# EAGLE library part MILLI-GRID-36 (library con-molex)
Milli-Grid Pin Header 2.00mm (.079") Pitch
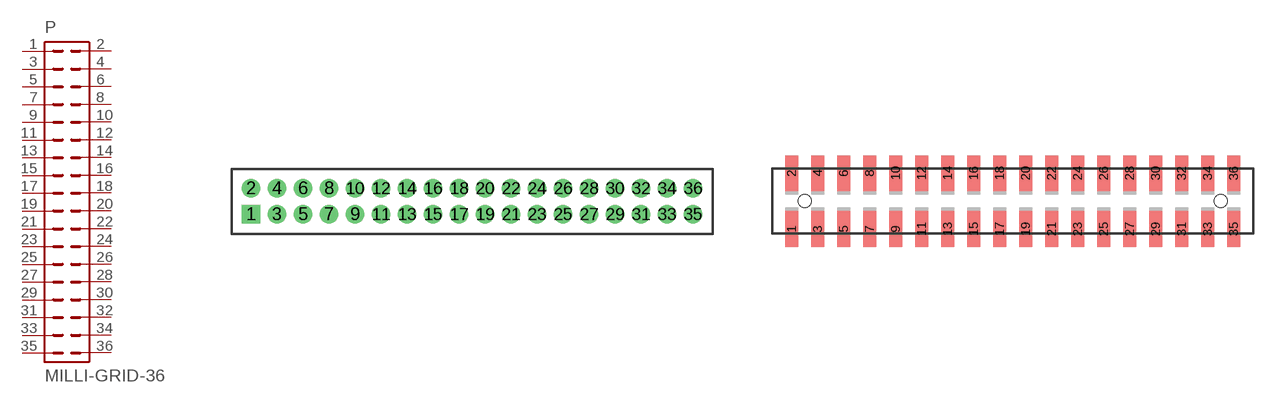
[diagram p66: symbol with the pads of 87758-36; footprints 87758-36, 87759-36]

Designator prefix P

## MILLI-GRID-36-87758  [87758-36]
1  1  pas
2  2  pas
3  3  pas
4  4  pas
5  5  pas
6  6  pas
7  7  pas
8  8  pas
9  9  pas
10  10  pas
11  11  pas
12  12  pas
13  13  pas
14  14  pas
15  15  pas
16  16  pas
17  17  pas
18  18  pas
19  19  pas
20  20  pas
21  21  pas
22  22  pas
23  23  pas
24  24  pas
25  25  pas
26  26  pas
27  27  pas
28  28  pas
29  29  pas
30  30  pas
31  31  pas
32  32  pas
33  33  pas
34  34  pas
35  35  pas
36  36  pas

## MILLI-GRID-36-87759  [87759-36]
Pads as for 87758-36

## MILLI-GRID-36-87264  [87264-36]
Pads as for 87758-36

## MILLI-GRID-36-87368  [87368-36]
Pads as for 87758-36

## Footprint 87758-36 (pad centres in mm)
PCB Pin Headers 2.00mm (.079") Pitch Milli-Grid Header, Vertical
drill 0.914 square: 1 -17,-1
drill 0.914: 2 -17,1; 3 -15,-1; 4 -15,1; 5 -13,-1; 6 -13,1; 7 -11,-1; 8 -11,1; 9 -9,-1; 10 -9,1; 11 -7,-1; 12 -7,1; 13 -5,-1; 14 -5,1; 15 -3,-1; 16 -3,1; 17 -1,-1; 18 -1,1; 19 1,-1; 20 1,1; 21 3,-1; 22 3,1; 23 5,-1; 24 5,1; 25 7,-1; 26 7,1; 27 9,-1; 28 9,1; 29 11,-1; 30 11,1; 31 13,-1; 32 13,1; 33 15,-1; 34 15,1; 35 17,-1; 36 17,1

## Footprint 87759-36 (pad centres in mm)
PCB Pin Headers 2.00mm (.079") Pitch Milli-Grid Header, Vertical SMD
smd 1 x 2.75: 1 -17,-2.15; 2 -17,2.15; 3 -15,-2.15; 4 -15,2.15; 5 -13,-2.15; 6 -13,2.15; 7 -11,-2.15; 8 -11,2.15; 9 -9,-2.15; 10 -9,2.15; 11 -7,-2.15; 12 -7,2.15; 13 -5,-2.15; 14 -5,2.15; 15 -3,-2.15; 16 -3,2.15; 17 -1,-2.15; 18 -1,2.15; 19 1,-2.15; 20 1,2.15; 21 3,-2.15; 22 3,2.15; 23 5,-2.15; 24 5,2.15; 25 7,-2.15; 26 7,2.15; 27 9,-2.15; 28 9,2.15; 29 11,-2.15; 30 11,2.15; 31 13,-2.15; 32 13,2.15; 33 15,-2.15; 34 15,2.15; 35 17,-2.15; 36 17,2.15
hole 1 at -16,0
hole 1 at 16,0

## Footprint 87264-36 (pad centres in mm)
Board-To-Board Receptacal 2.00mm (.079") Pitch Milli-Grid Header, Side Entry Mates with 2mm(.079") Mill-Grid Header
drill 0.914 square: 1 -17,-2.25
drill 0.914: 2 -17,2.25; 3 -15,-2.25; 4 -15,2.25; 5 -13,-2.25; 6 -13,2.25; 7 -11,-2.25; 8 -11,2.25; 9 -9,-2.25; 10 -9,2.25; 11 -7,-2.25; 12 -7,2.25; 13 -5,-2.25; 14 -5,2.25; 15 -3,-2.25; 16 -3,2.25; 17 -1,-2.25; 18 -1,2.25; 19 1,-2.25; 20 1,2.25; 21 3,-2.25; 22 3,2.25; 23 5,-2.25; 24 5,2.25; 25 7,-2.25; 26 7,2.25; 27 9,-2.25; 28 9,2.25; 29 11,-2.25; 30 11,2.25; 31 13,-2.25; 32 13,2.25; 33 15,-2.25; 34 15,2.25; 35 17,-2.25; 36 17,2.25

## Footprint 87368-36 (pad centres in mm)
Board-To-Board Receptacal 2.00mm (.079") Pitch Milli-Grid Header, Side Entry SMD Mates with 2mm(.079") Mill-Grid Header
smd 1 x 2.8: 1 -17,-3.1; 2 -17,3.1; 3 -15,-3.1; 4 -15,3.1; 5 -13,-3.1; 6 -13,3.1; 7 -11,-3.1; 8 -11,3.1; 9 -9,-3.1; 10 -9,3.1; 11 -7,-3.1; 12 -7,3.1; 13 -5,-3.1; 14 -5,3.1; 15 -3,-3.1; 16 -3,3.1; 17 -1,-3.1; 18 -1,3.1; 19 1,-3.1; 20 1,3.1; 21 3,-3.1; 22 3,3.1; 23 5,-3.1; 24 5,3.1; 25 7,-3.1; 26 7,3.1; 27 9,-3.1; 28 9,3.1; 29 11,-3.1; 30 11,3.1; 31 13,-3.1; 32 13,3.1; 33 15,-3.1; 34 15,3.1; 35 17,-3.1; 36 17,3.1
hole 0.914 at -17,0
hole 0.914 at 0,0